# EAGLE library part MAX5048 (library MAX5048)
Driver
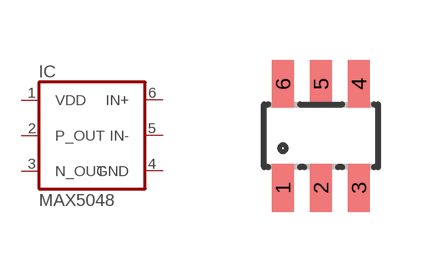
[diagram p0: symbol with the pads of SOT23-6; footprint SOT23-6]

Designator prefix IC

## MAX5048  [SOT23-6]
1  VDD  pwr
2  P_OUT  out
3  N_OUT  out
4  GND
5  IN-  in
6  IN+  in

## Footprint SOT23-6 (pad centres in mm)
Small Outline Transistor TSC [Taiwan Semiconductor Company, Ltd] Source: http://www.taiwansemi.com .. 5205_0409c.pdf
smd 0.55 x 1.2: 1 -0.95,-1.3; 2 0,-1.3; 3 0.95,-1.3; 4 0.95,1.3; 5 0.003,1.3; 6 -0.95,1.3